# Altium footprint library RAC02.PcbLib: 1 footprints
Each footprint in its own frame and in the unit in brackets; x right, y up, seen from the top. Pads: shape width x height; smd on the part's side, far side on the other; paste and mask are expansions set on the pad; w line width, h text height; cw(c..) or ccw(c..) is an arc to the next point about the centre after c.
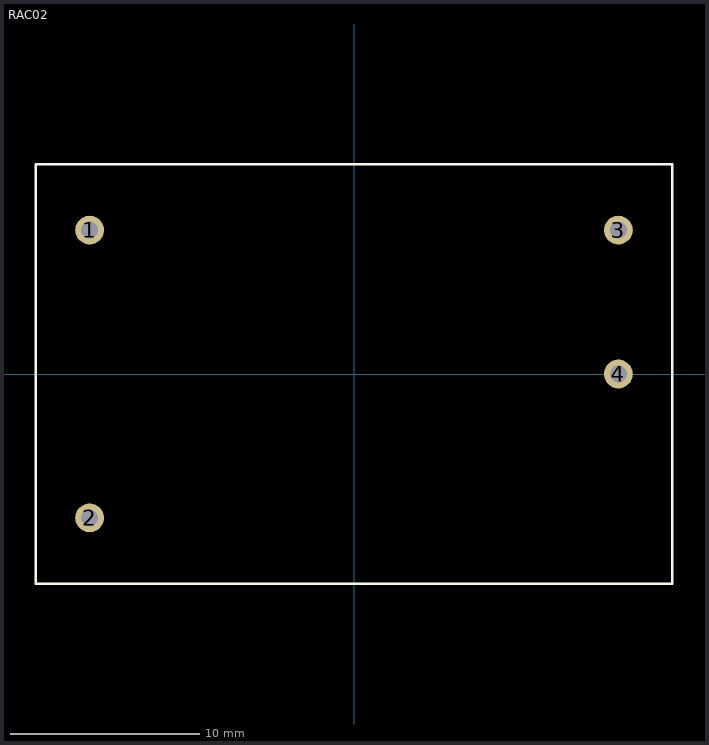
[diagram p0: the footprint, top view; thin cyan lines are the x and y axes]

## RAC02 [mil]
height 27.56
pads (4):
  round 60 hole 35.43: 1(-551.18,300) 2(-551.18,-300) 3(551.18,300) 4(551.18,0)
Top Overlay:
  lines w5: -663.39,-437.01 -663.39,437.01 663.39,437.01 663.39,-437.01 -663.39,-437.01